# Altium schematic symbol library HEF4066BT.SchLib: 1 symbol
Pins are listed as number, name and electrical type; pins without a type are passive.

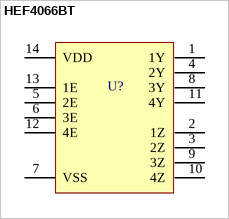
[diagram p0: symbol HEF4066BT]

## HEF4066BT
designator U?
4 Circuit IC Switch 1:1 155Ohm 14-SO; MP: HEF4066BT; MF: NXP Semiconductors; Availability: Unavailable; Package: SO-14 NXP Semiconductors; Value: *; Price: None; SnapEDA_Link: https://www.snapeda.com/parts/HEF4066BT/NXP%20Semiconductors/view-part/4303716/?ref=snap
footprint SOIC127P600X175-14N
pins: 1 1Y, 2 1Z, 3 2Z, 4 2Y, 5 2E, 6 3E, 7 VSS, 8 3Y, 9 3Z, 10 4Z, 11 4Y, 12 4E, 13 1E, 14 VDD (power)